# Altium schematic symbol library MSS1210-153MEB.SchLib: 1 symbol
Pins are listed as number, name and electrical type; pins without a type are passive.

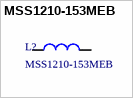
[diagram p0: symbol MSS1210-153MEB]

## MSS1210-153MEB
designator L?
INDUCTOR, PWR, 15UH, 8.7A, 20%,12MHZ; Farnell: 2288331
footprint INDP123123X100N (Precision Wire Wound Inductor, 2-Leads, Body 12,30x12,30mm, IPC Medium Density)
pins: 1, 2